# Altium schematic symbol library RT8279GSP.SchLib: 1 symbol
Pins are listed as number, name and electrical type; pins without a type are passive.

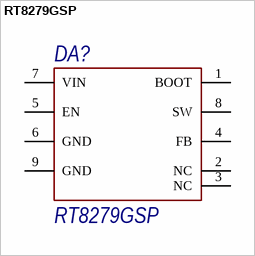
[diagram p0: symbol RT8279GSP]

## RT8279GSP
designator DA?
Преобразователь постоянного тока понижающий подстраиваемый выход 5А / НЕ РЕКОМЕНДОВАНО ДЛЯ НОВЫХ ДИЗАЙНОВ
pins: 1 BOOT, 2 NC, 3 NC, 4 FB, 5 EN, 6 GND, 7 VIN, 8 SW, 9 GND